# Altium footprint library K3NG_PCB_Libs.PcbLib: 26 footprints (part 1 of 2)
Each footprint in its own frame and in the unit in brackets; x right, y up, seen from the top. Pads: shape width x height; smd on the part's side, far side on the other; paste and mask are expansions set on the pad; w line width, h text height; cw(c..) or ccw(c..) is an arc to the next point about the centre after c.
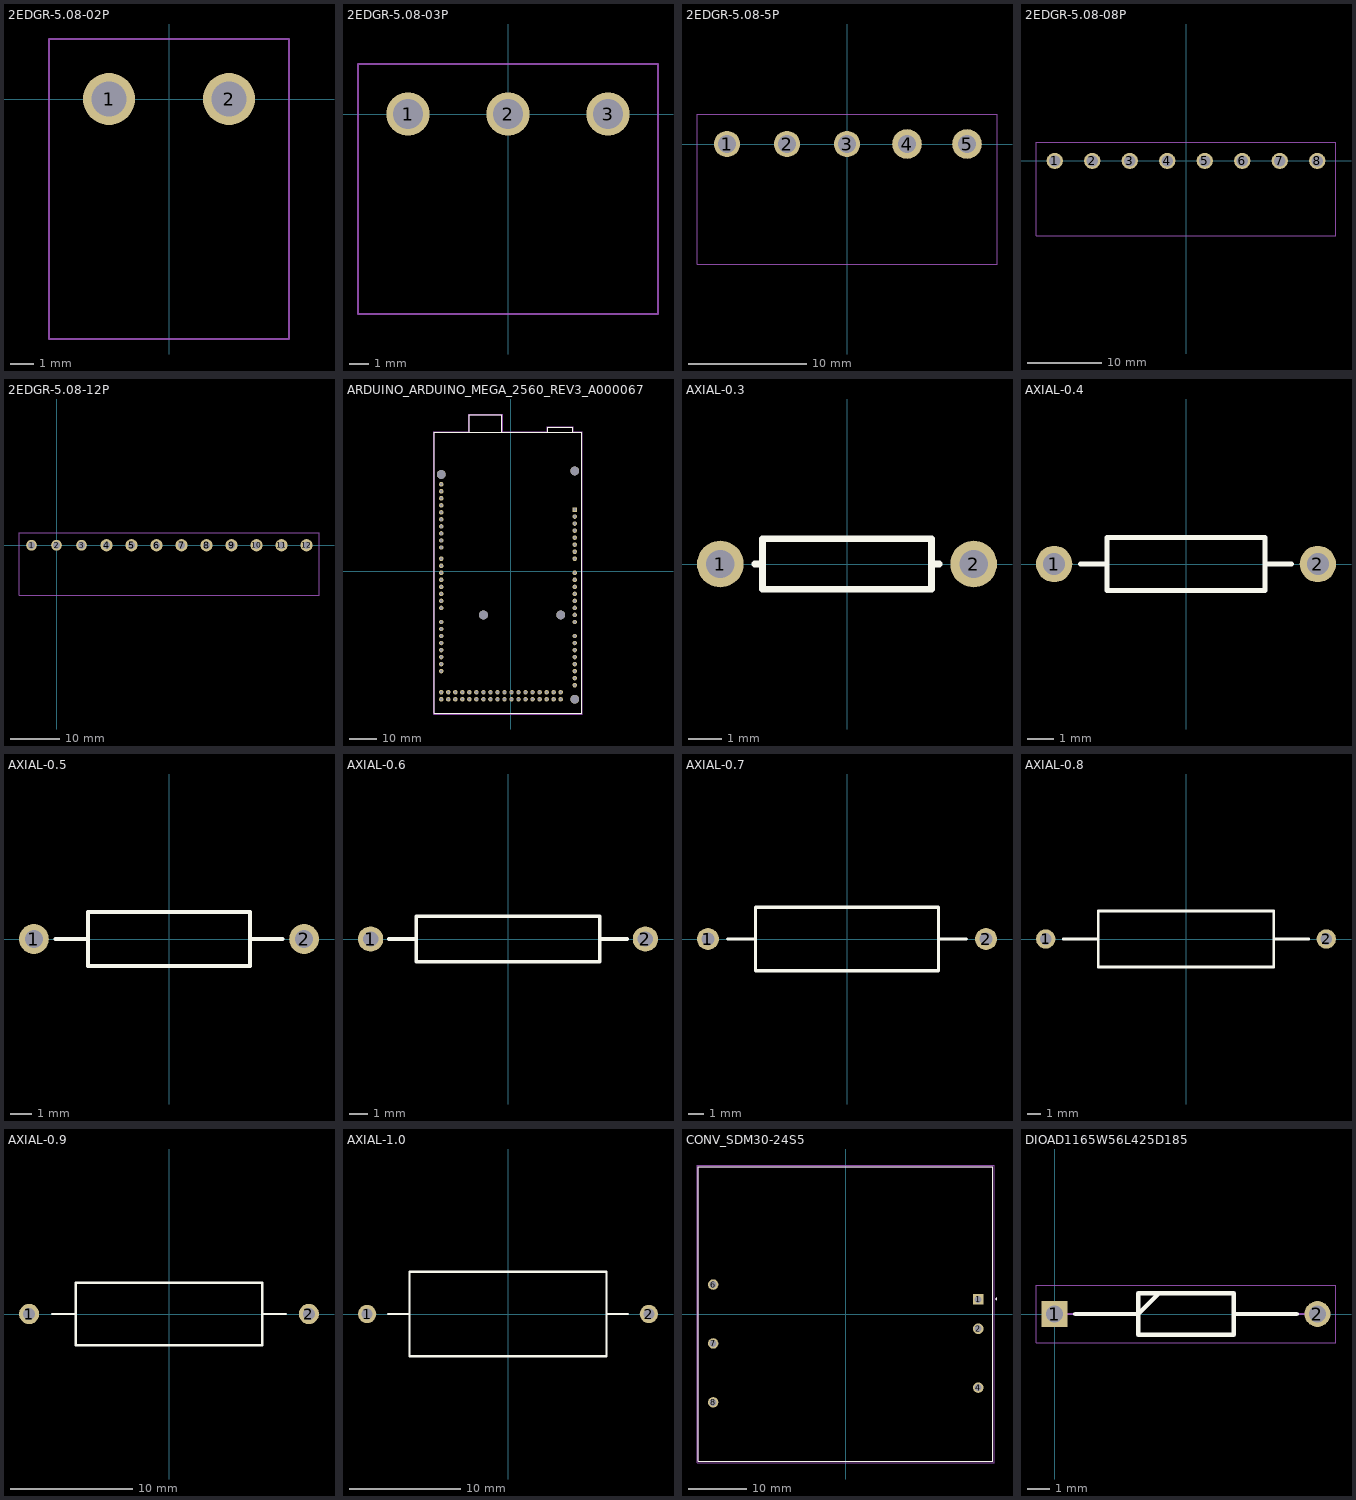
[diagram p0: the footprints below, top view; thin cyan lines are the x and y axes]

## 2EDGR-5.08-02P [mm]
pads (2):
  round 2.2 hole 1.5: 1(-2.54,0) 2(2.54,0)
Mechanical 1:
  lines w0.1: -5.08,-10.16 -5.08,2.54 5.08,2.54 5.08,-10.16 -5.08,-10.16
3D body "2EDGR-5.08-02P-14-100A(H).stp": height 9.05, standoff -2.65, extent -5.08,-9.81 5.08,2.19

## 2EDGR-5.08-03P [mm]
pads (3):
  round 2.2 hole 1.5: 1(-5.08,0) 2(0,0) 3(5.08,0)
Mechanical 1:
  lines w0.1: -7.62,-10.16 -7.62,2.54 7.62,2.54 7.62,-10.16 -7.62,-10.16
3D body "2EDGR-5.08-03P-14-100A(H).stp": height 9, standoff -2.7, extent -7.62,-9.9 7.62,2.1

## 2EDGR-5.08-5P [mm]
pads (5):
  round 2.2 hole 1.5: 1(-10.16,0) 2(-5.08,0) 3(0,0)
  round 2.5 hole 1.5: 4(5.08,0) 5(10.16,0)
Mechanical 1:
  lines w0.1: -12.7,-10.16 12.7,-10.16 12.7,2.54 -12.7,2.54 -12.7,-10.16
3D body "2EDGR-5.08-05P-14-100A(H).stp": height 9.05, standoff -2.65, extent -12.7,-9.968 12.7,2.032

## 2EDGR-5.08-08P [mm]
pads (8):
  round 2.2 hole 1.5: 1(-17.78,0) 2(-12.7,0) 3(-7.62,0) 4(-2.54,0) 5(2.54,0) 6(7.62,0) 7(12.7,0) 8(17.78,0)
Mechanical 1:
  lines w0.1: -20.32,-10.16 -20.32,2.54 20.32,2.54 20.32,-10.16 -20.32,-10.16
3D body "2EDGR-5.08-08P-14-100A(H).stp": height 9, standoff -2.7, extent -20.331,-9.887 20.309,2.113

## 2EDGR-5.08-12P [mm]
pads (12):
  round 2.2 hole 1.5: 1(-5.08,0) 2(0,0) 3(5.08,0)
  round 2.5 hole 1.5: 4(10.16,0) 5(15.24,0) 6(20.32,0) 7(25.4,0) 8(30.48,0) 9(35.56,0) 10(40.64,0) 11(45.72,0) 12(50.8,0)
Mechanical 1:
  lines w0.1: -7.62,-10.16 53.34,-10.16 53.34,2.54 -7.62,2.54 -7.62,-10.16
3D body "2EDGR-5.08-12P-14-100A(H).stp": height 9.05, standoff -2.65, extent -7.62,-9.81 53.34,2.19

## ARDUINO_ARDUINO_MEGA_2560_REV3_A000067 [mm]
pads (91):
  round 1.6 hole 1: 0(-25.13,-13.2) 1(-25.13,-10.66) 2(-25.13,-8.12) 3(-25.13,-5.58) 3V3(23.13,14.74) 4(-25.13,-3.04) 5(-25.13,-0.5) 5V_1(23.13,12.2) 5V_2(-25.13,-43.68) 5V_3(-25.13,-46.22) 6(-25.13,2.04) 7(-25.13,4.58) 8(-25.13,8.644) 9(-25.13,11.184) 10(-25.13,13.724) 11(-25.13,16.264) 12(-25.13,18.804) 13(-25.13,21.344) 14(-25.13,-18.28) 15(-25.13,-20.82) 16(-25.13,-23.36) 17(-25.13,-25.9) 18(-25.13,-28.44) 19(-25.13,-30.98) 20(-25.13,-33.52) 21(-25.13,-36.06) 22(-22.59,-43.68) 23(-22.59,-46.22) 24(-20.05,-43.68) 25(-20.05,-46.22) 26(-17.51,-43.68) 27(-17.51,-46.22) 28(-14.97,-43.68) 29(-14.97,-46.22) 30(-12.43,-43.68) 31(-12.43,-46.22) 32(-9.89,-43.68) 33(-9.89,-46.22) 34(-7.35,-43.68) 35(-7.35,-46.22) 36(-4.81,-43.68) 37(-4.81,-46.22) 38(-2.27,-43.68) 39(-2.27,-46.22) 40(0.27,-43.68) 41(0.27,-46.22) 42(2.81,-43.68) 43(2.81,-46.22) 44(5.35,-43.68) 45(5.35,-46.22) 46(7.89,-43.68) 47(7.89,-46.22) 48(10.43,-43.68) 49(10.43,-46.22) 50(12.97,-43.68) 51(12.97,-46.22) 52(15.51,-43.68) 53(15.51,-46.22) AD0(23.13,-0.5) AD1(23.13,-3.04) AD2(23.13,-5.58) AD3(23.13,-8.12) AD4(23.13,-10.66) AD5(23.13,-13.2) AD6(23.13,-15.74) AD7(23.13,-18.28) AD8(23.13,-23.36) AD9(23.13,-25.9) AD10(23.13,-28.44) AD11(23.13,-30.98) AD12(23.13,-33.52) AD13(23.13,-36.06) AD14(23.13,-38.6) AD15(23.13,-41.14) AREF(-25.13,26.424) GND(-25.13,23.884) GND(23.13,7.12) GND(23.13,9.66) GND4(18.05,-43.68) GND5(18.05,-46.22) IOREF(23.13,19.82) RESET(23.13,17.28) SCL(-25.13,31.504) SDA(-25.13,28.964) VIN(23.13,4.58)
  rect 1.6x1.6 hole 1: NC(23.13,22.36)
  round 3.2 hole 3.2 unplated: ""(-25.13,35.06) ""(-9.89,-15.74) ""(18.05,-15.74) ""(23.13,-46.22) ""(23.13,36.33)
Top Overlay:
  lines w0.127: -15.02,50.3 -15.02,56.65 -3.22,56.65 -3.22,50.3 ; -15.02,50.3 -27.67,50.3 -27.67,-51.3 25.67,-51.3 25.67,50.3 22.37,50.3 ; -15.02,50.3 -3.22,50.3 ; -3.22,50.3 13.378,50.3 ; 13.378,50.3 13.378,52.11 22.37,52.11 22.37,50.3 ; 13.378,50.3 22.37,50.3
Mechanical 13:
  lines w0.127: -15.02,50.3 -15.02,56.65 -3.22,56.65 -3.22,50.3 ; -15.02,50.3 -27.67,50.3 -27.67,-51.3 25.67,-51.3 25.67,50.3 22.37,50.3 ; -15.02,50.3 -3.22,50.3 ; -3.22,50.3 13.378,50.3 ; 13.378,50.3 13.378,52.11 22.37,52.11 22.37,50.3 ; 13.378,50.3 22.37,50.3
Mechanical 15:
  lines w0.05: -27.92,-51.55 25.92,-51.55 25.92,50.55 22.62,50.55 22.62,52.36 13.128,52.36 13.128,50.55 -2.97,50.55 -2.97,56.9 -15.27,56.9 -15.27,50.55 -27.92,50.55 -27.92,-51.55
3D body "PLD-36.step": height 8.6, standoff -3, extent -26.4,-47.49 19.32,-42.41
3D body "PLS-8.step": height 8.6, standoff -3, extent 21.86,-42.41 24.4,-22.09
3D body "PLS-8.step": height 8.6, standoff -3, extent 21.86,-19.55 24.4,0.77
3D body "PLS-8.step": height 8.6, standoff -3, extent 21.86,3.31 24.4,23.63
3D body "PLS-8.step": height 8.6, standoff -3, extent -26.4,-37.33 -23.86,-17.01
3D body "PLS-8.step": height 8.6, standoff -3, extent -26.4,-14.47 -23.86,5.85
3D body "PLS-10.step": height 8.6, standoff -3, extent -26.4,7.374 -23.86,32.774

## AXIAL-0.3 [mm] "Axial Device, Thru-Hole; 2 Leads; 0.3 in Pin Spacing"
height 1.524
pads (2):
  round 1.4 hole 0.85: 1(-3.81,0) 2(3.81,0)
Top Overlay:
  lines w0.2: -2.769,0 -2.54,0 ; 2.769,0 2.54,0 ; 2.54,0 2.54,-0.762 -2.54,-0.762 -2.54,0.762 2.54,0.762 2.54,0

## AXIAL-0.4 [mm] "Axial Device, Thru-Hole; 2 Leads; 0.4 in Pin Spacing"
height 2.032
pads (2):
  round 1.4 hole 0.85: 1(-5.08,0) 2(5.08,0)
Top Overlay:
  lines w0.2: -4.064,0 -3.048,0 ; 3.048,0 4.064,0 ; -3.048,-1.016 3.048,-1.016 3.048,1.016 -3.048,1.016 -3.048,-1.016

## AXIAL-0.5 [mm] "Axial Device, Thru-Hole; 2 Leads; 0.5 in Pin Spacing"
height 2.54
pads (2):
  round 1.4 hole 0.85: 1(-6.35,0) 2(6.35,0)
Top Overlay:
  lines w0.2: -5.334,0 -3.81,0 ; 3.81,0 5.334,0 ; -3.81,-1.27 -3.81,1.27 3.81,1.27 3.81,-1.27 -3.81,-1.27

## AXIAL-0.6 [mm] "Axial Device, Thru-Hole; 2 Leads; 0.6 in Pin Spacing"
height 2.54
pads (2):
  round 1.4 hole 0.85: 1(-7.62,0) 2(7.62,0)
Top Overlay:
  lines w0.2: -6.604,0 -5.08,0 ; 5.08,0 6.604,0 ; -5.08,-1.27 -5.08,1.27 5.08,1.27 5.08,-1.27 -5.08,-1.27

## AXIAL-0.7 [mm] "Axial Device, Thru-Hole; 2 Leads; 0.7 in Pin Spacing"
height 4.064
pads (2):
  round 1.4 hole 0.85: 1(-8.89,0) 2(8.89,0)
Top Overlay:
  lines w0.2: -7.62,0 -5.842,0 ; 5.842,0 7.62,0 ; -5.842,-2.032 5.842,-2.032 5.842,2.032 -5.842,2.032 -5.842,-2.032

## AXIAL-0.8 [mm] "Axial Device, Thru-Hole; 2 Leads; 0.8 in Pin Spacing"
height 4.064
pads (2):
  round 1.4 hole 0.85: 1(-10.16,0) 2(10.16,0)
Top Overlay:
  lines w0.2: -8.89,0 -6.35,0 ; 6.35,0 8.89,0 ; -6.35,-2.032 -6.35,2.032 6.35,2.032 6.35,-2.032 -6.35,-2.032

## AXIAL-0.9 [mm] "Axial Device, Thru-Hole; 2 Leads; 0.9 in Pin Spacing"
height 5.08
pads (2):
  round 1.65 hole 1: 1(-11.43,0) 2(11.43,0)
Top Overlay:
  lines w0.2: -9.525,0 -7.62,0 ; 7.62,0 9.525,0 ; -7.62,-2.54 7.62,-2.54 7.62,2.54 -7.62,2.54 -7.62,-2.54

## AXIAL-1.0 [mm] "Axial Device, Thru-Hole; 2 Leads; 1.0 in Pin Spacing"
height 7.62
pads (2):
  round 1.65 hole 1: 1(-12.7,0) 2(12.7,0)
Top Overlay:
  lines w0.2: -10.795,0 -8.89,0 ; 8.89,0 10.795,0 ; -8.89,-3.81 -8.89,3.81 8.89,3.81 8.89,-3.81 -8.89,-3.81

## CONV_SDM30-24S5 [mm]
pads (6):
  rect 1.8x1.8 hole 1.2: 1(22.86,2.54)
  round 1.8 hole 1.2: 2(22.86,-2.54) 4(22.86,-12.7) 6(-22.86,5.08) 7(-22.86,-5.08) 8(-22.86,-15.24)
Top Overlay:
  circle w0.2: c26,2.6 r0.1
  lines w0.127: -25.4,-25.4 25.4,-25.4 25.4,25.4 -25.4,25.4 -25.4,-25.4
Mechanical 13:
  circle w0.2: c26,2.6 r0.1
  lines w0.127: -25.4,-25.4 25.4,-25.4 25.4,25.4 -25.4,25.4 -25.4,-25.4
Mechanical 15:
  lines w0.05: -25.65,-25.65 25.65,-25.65 25.65,25.65 -25.65,25.65 -25.65,-25.65
3D body "SDM30.stp": height 16.25, standoff -4.61, extent -25.313,-25.345 25.487,25.455

## DIOAD1165W56L425D185 [mm]
pads (2):
  rect 1.15x1.15 hole 0.75: 1(0,0)
  round 1.15 hole 0.75: 2(11.7,0)
Top Overlay:
  lines w0.2: 0.925,0 3.725,0 4.65,0.925 ; 7.975,0 10.775,0 ; 3.725,-0.925 7.975,-0.925 7.975,0.925 3.725,0.925 3.725,-0.925
Mechanical 13:
  lines w0.1: 0,0 3.725,0 4.65,0.925 ; 7.975,0 11.7,0 ; 3.725,-0.925 7.975,-0.925 7.975,0.925 3.725,0.925 3.725,-0.925
Mechanical 15:
  lines w0.05: -0.825,-1.275 12.525,-1.275 12.525,1.275 -0.825,1.275 -0.825,-1.275